# EAGLE library part SX1278 (library Semtech)
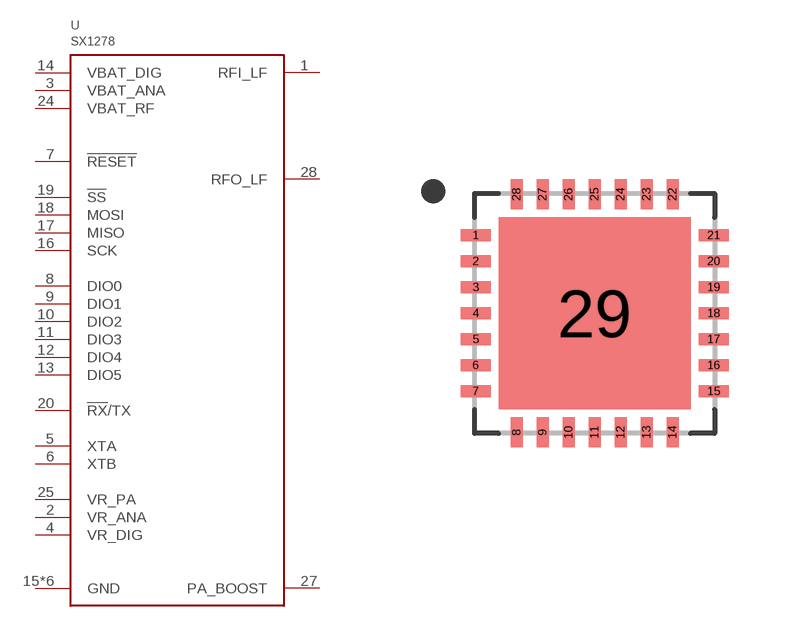
[diagram p1: symbol with the pads of QFN28; footprint QFN28]

Designator prefix U

## SX1278  [QFN28]
1  RFI_LF
2  VR_ANA
3  VBAT_ANA
4  VR_DIG
5  XTA
6  XTB
7  !RESET
8  DIO0
9  DIO1
10  DIO2
11  DIO3
12  DIO4
13  DIO5
14  VBAT_DIG
15  GND
16  SCK
17  MISO
18  MOSI
19  !SS
20  !RX!/TX
21  GND
22  GND
23  GND
24  VBAT_RF
25  VR_PA
26  GND
27  PA_BOOST
28  RFO_LF
29  GND

## Footprint QFN28 (pad centres in mm)
smd 0.75 x 0.3: 1 -2.975,1.95; 2 -2.975,1.3; 3 -2.975,0.65; 4 -2.975,0; 5 -2.975,-0.65; 6 -2.975,-1.3; 7 -2.975,-1.95; 15 2.975,-1.95; 16 2.975,-1.3; 17 2.975,-0.65; 18 2.975,0; 19 2.975,0.65; 20 2.975,1.3; 21 2.975,1.95
smd 0.3 x 0.75: 8 -1.95,-2.975; 9 -1.3,-2.975; 10 -0.65,-2.975; 11 0,-2.975; 12 0.65,-2.975; 13 1.3,-2.975; 14 1.95,-2.975; 22 1.95,2.975; 23 1.3,2.975; 24 0.65,2.975; 25 0,2.975; 26 -0.65,2.975; 27 -1.3,2.975; 28 -1.95,2.975
smd 4.8 x 4.8: 29 0,0